# Altium schematic symbol library XTAL.SchLib: 3 symbols
Pins are listed as number, name and electrical type; pins without a type are passive.

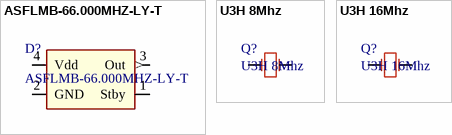
[diagram p0: symbols ASFLMB-66.000MHZ-LY-T to U3H 16Mhz]

## ASFLMB-66.000MHZ-LY-T
designator D?
Generator 66.000 Mhz
footprint ASFLMB-66.000MHZ-LY-T (DFN, 4-Leads, Body 3,15x5,00mm, Pitch 2,54mm, IPC Medium Density)
pins: 1 Stby, 2 GND (power), 3 Out (out), 4 Vdd (power)

## U3H 8Mhz
designator Q?
8Mhz
footprint HC49/U3H_8
pins: 1, 2

## U3H 16Mhz
designator Q?
16Mhz
footprint HC49/U3H_16
pins: 1, 2